# Altium footprint library ERA-6AEB102V.PcbLib: 1 footprints
Each footprint in its own frame and in the unit in brackets; x right, y up, seen from the top. Pads: shape width x height; smd on the part's side, far side on the other; paste and mask are expansions set on the pad; w line width, h text height; cw(c..) or ccw(c..) is an arc to the next point about the centre after c.
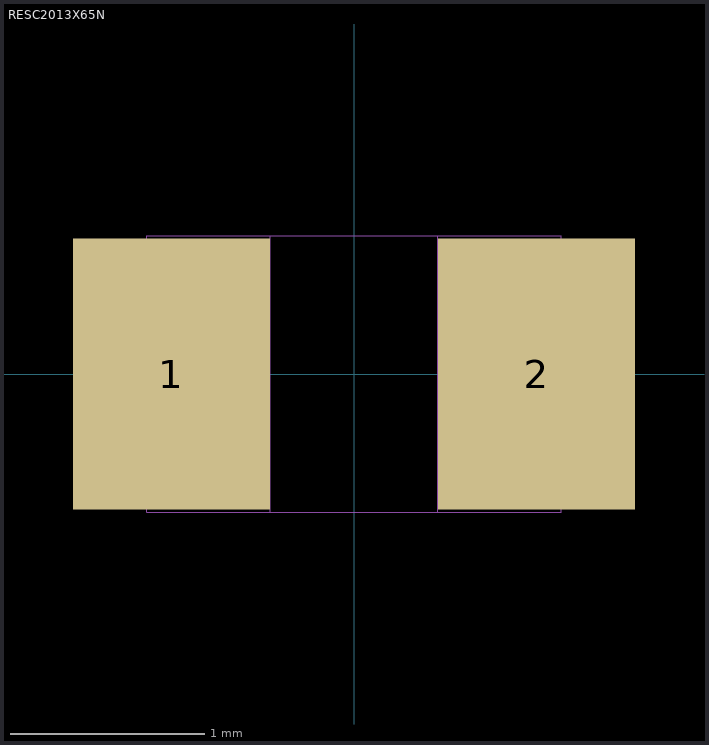
[diagram p0: the footprint, top view; thin cyan lines are the x and y axes]

## RESC2013X65N [mil]
pads (2):
  rect 40x55 smd: 1(-37,0) 2(37,0)
Mechanical 1:
  lines w0: -17,-28 17,-28 ; -17,-28 -42,-28 -42,28 -17,28 ; -17,-28 -17,28 ; -17,28 17,28 ; 17,-28 42,-28 42,28 17,28 ; 17,-28 17,28